# EAGLE library part DRA818V_2 (library DRA818)
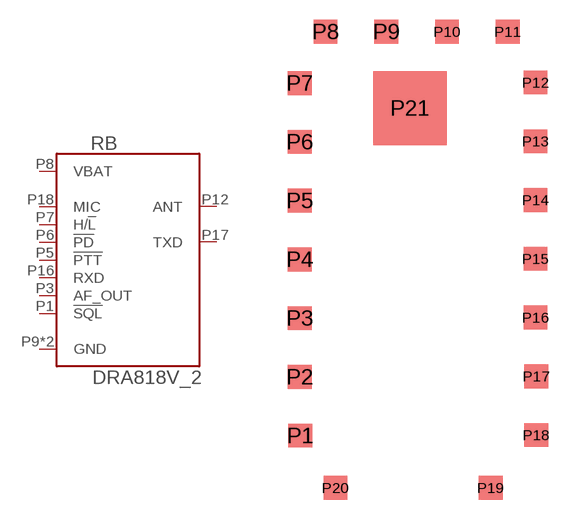
[diagram p1: symbol with the pads of DORJI(#1)_2; footprint DORJI(#1)_2]

Designator prefix RB

## DRA818V_2  [DORJI(#1)_2]
P1  !SQL  out
P3  AF_OUT  out
P5  !PTT  in
P6  !PD  in
P7  H/!L  in
P8  VBAT  pwr
P9  GND  pwr
P10  GND  pwr
P12  ANT  out
P16  RXD  in
P17  TXD  out
P18  MIC  in

## Footprint DORJI(#1)_2 (pad centres in mm)
smd 1.8 x 1.8: P1 0.6,4.4; P2 0.55,8.85; P3 0.55,13.3; P4 0.55,17.75; P5 0.55,22.2; P6 0.55,26.65; P7 0.55,31.1; P8 2.5,35; P9 7.1,35; P10 11.7,35; P11 16.3,35; P12 18.4,31.15; P13 18.4,26.7; P14 18.4,22.25; P15 18.4,17.8; P16 18.4,13.35; P17 18.45,8.9; P18 18.45,4.45; P19 15,0.45; P20 3.25,0.45
smd 5.588 x 5.588: P21 8.89,29.21